# EAGLE library part EM11B (library rotary-encoder)
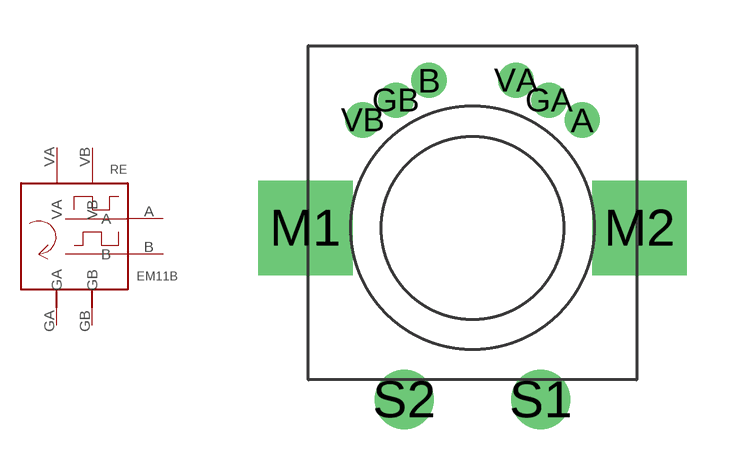
[diagram p1: symbol with the pads of EM11; footprint EM11]

Designator prefix RE

## EM11B  [EM11]
A  A
B  B
GA  GA  sup
GB  GB  sup
VA  VA  sup
VB  VB  sup

## Footprint EM11 (pad centres in mm)
drill 0.65 round: A 3.608,3.55; B -1.43,4.856; GA 2.52,4.2; GB -2.52,4.2; VA 1.43,4.856; VB -3.608,3.55
drill 2.1 square: M1 -5.5,0; M2 5.5,0
drill 1.3 round: S1 2.25,-5.65; S2 -2.25,-5.65